# EAGLE library part XE_SLOT (library pbxl)
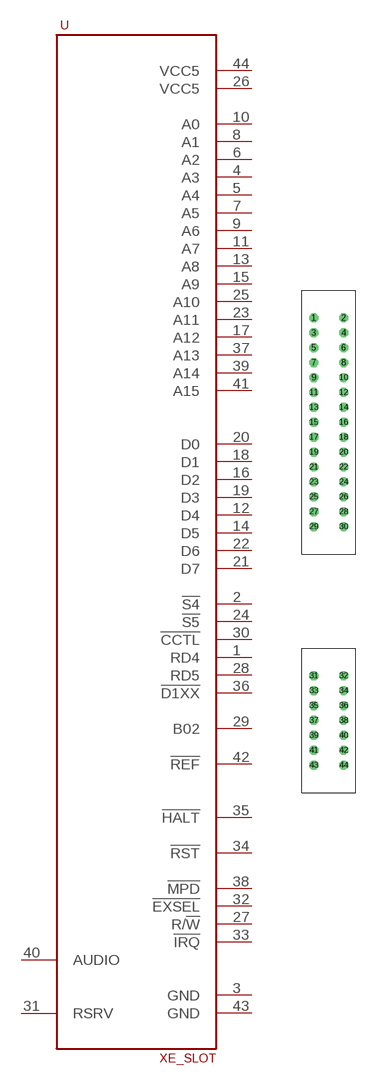
[diagram p1: symbol with the pads of XE_SLOT; footprint XE_SLOT]

Designator prefix -

## XE_SLOT  [XE_SLOT]
1  RD4
2  !S4!
3  GND
4  A3
5  A4
6  A2
7  A5
8  A1
9  A6
10  A0
11  A7
12  D4
13  A8
14  D5
15  A9
16  D2
17  A12
18  D1
19  D3
20  D0
21  D7
22  D6
23  A11
24  !S5!
25  A10
26  VCC5
27  R/!W!
28  RD5
29  B02
30  !CCTL!
31  RSRV
32  !EXSEL!
33  !IRQ!
34  !RST!
35  !HALT!
36  !D1XX!
37  A13
38  !MPD!
39  A14
40  AUDIO
41  A15
42  !REF!
43  GND
44  VCC5

## Footprint XE_SLOT (pad centres in mm)
PIN HEADER
drill 1.016 octagon: 1 -2.54,41.91; 2 2.54,41.91; 3 -2.54,39.37; 4 2.54,39.37; 5 -2.54,36.83; 6 2.54,36.83; 7 -2.54,34.29; 8 2.54,34.29; 9 -2.54,31.75; 10 2.54,31.75; 11 -2.54,29.21; 12 2.54,29.21; 13 -2.54,26.67; 14 2.54,26.67; 15 -2.54,24.13; 16 2.54,24.13; 17 -2.54,21.59; 18 2.54,21.59; 19 -2.54,19.05; 20 2.54,19.05; 21 -2.54,16.51; 22 2.54,16.51; 23 -2.54,13.97; 24 2.54,13.97; 25 -2.54,11.43; 26 2.54,11.43; 27 -2.54,8.89; 28 2.54,8.89; 29 -2.54,6.35; 30 2.54,6.35; 31 -2.54,-19.05; 32 2.54,-19.05; 33 -2.54,-21.59; 34 2.54,-21.59; 35 -2.54,-24.13; 36 2.54,-24.13; 37 -2.54,-26.67; 38 2.54,-26.67; 39 -2.54,-29.21; 40 2.54,-29.21; 41 -2.54,-31.75; 42 2.54,-31.75; 43 -2.54,-34.29; 44 2.54,-34.29